# Altium schematic symbol library CDBHD140L-G.SchLib: 1 symbol
Pins are listed as number, name and electrical type; pins without a type are passive.

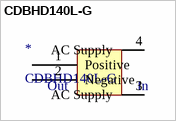
[diagram p0: symbol CDBHD140L-G]

## CDBHD140L-G
designator *
pins: 1 Positive (power) "DC Output", 2 Negative (power) "DC Output", 3 AC Supply (power), 4 AC Supply (power)
text: Out; In